# EAGLE library part LT3060IDC-1.8TRMPBF (library 1V8)
45V VIN, Micropower Low Noise, 100mA Low Dropout, Linear Regulator
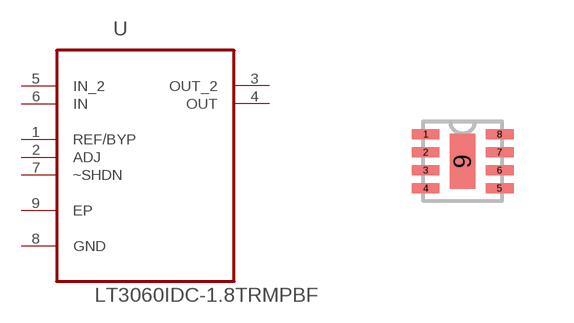
[diagram p11: symbol with the pads of LINEAR_DC8; footprint LINEAR_DC8]

Designator prefix U

## LT3060IDC-1.8TRMPBF (MPN: LT3060IDC-1.8#TRMPBF; OC_FARNELL: -; OC_NEWARK: 84R5063; PACKAGE: DFN-8; SUPPLIER: Linear Technology)  [LINEAR_DC8]
1  REF/BYP  in
2  ADJ  in
3  OUT_2  out
4  OUT  out
5  IN_2  pwr
6  IN  pwr
7  ~SHDN  in
8  GND  pas
9  EP  pas

## Footprint LINEAR_DC8 (pad centres in mm)
smd 0.7 x 0.25: 1 -0.925,0.675; 2 -0.925,0.225; 3 -0.925,-0.225; 4 -0.925,-0.675; 5 0.925,-0.675; 6 0.925,-0.225; 7 0.925,0.225; 8 0.925,0.675
smd 0.64 x 1.37: 9 0,0